# Altium footprint library PowerICs.PcbLib: 2 footprints
Each footprint in its own frame and in the unit in brackets; x right, y up, seen from the top. Pads: shape width x height; smd on the part's side, far side on the other; paste and mask are expansions set on the pad; w line width, h text height; cw(c..) or ccw(c..) is an arc to the next point about the centre after c.
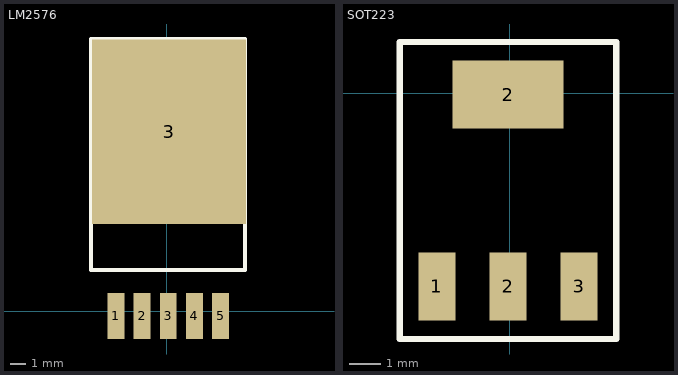
[diagram p0: the footprints below, top view; thin cyan lines are the x and y axes]

## LM2576 [mm]
pads (6):
  rect 1.1x3 smd: 1(-3.302,-0.295) 2(-1.602,-0.295) 3(0.098,-0.295) 4(1.798,-0.295) 5(3.498,-0.295)
  rect 10x12 smd: 3(0.147,11.676)
Top Overlay:
  lines w0.254: -1.9,15.202 -1.897,15.199 0.076,15.199 ; 0.076,17.168 0.076,15.199 ; 0.081,13.221 0.076,13.226 0.076,15.199 ; 2.045,15.202 2.042,15.199 0.076,15.199 ; -4.928,2.703 5.08,2.703 5.08,17.714 -4.928,17.714 -4.928,2.703

## SOT223 [mm]
pads (4):
  rect 1.2x2.2 smd: 1(-2.356,-6.249) 2(-0.056,-6.249) 3(2.244,-6.249)
  rect 3.6x2.2 smd: 2(-0.056,-0.049)
Top Overlay:
  lines w0.2: -3.556,-7.949 -3.556,1.651 3.444,1.651 3.444,-7.949 -3.556,-7.949